# Altium footprint library WL-SITW.PcbLib: 4 footprints
Each footprint in its own frame and in the unit in brackets; x right, y up, seen from the top. Pads: shape width x height; smd on the part's side, far side on the other; paste and mask are expansions set on the pad; w line width, h text height; cw(c..) or ccw(c..) is an arc to the next point about the centre after c.
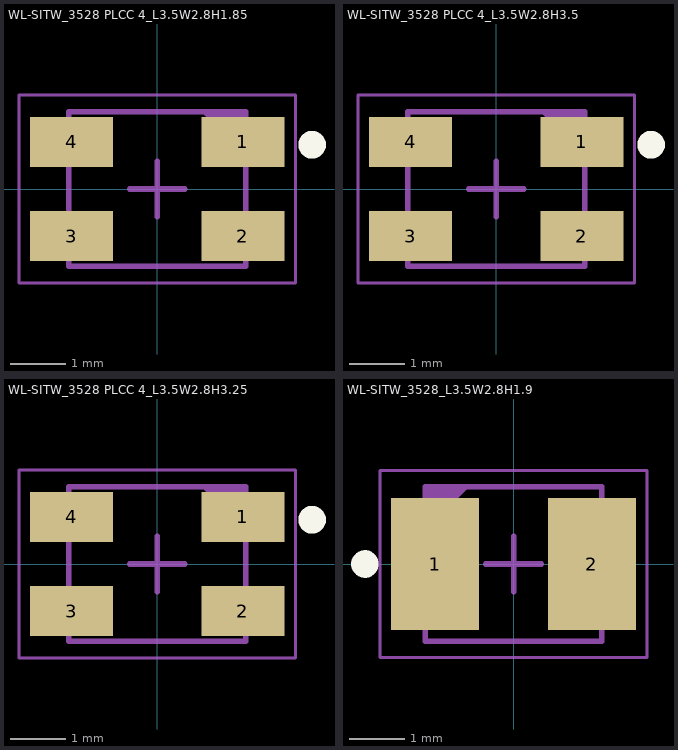
[diagram p0: the footprints below, top view; thin cyan lines are the x and y axes]

## WL-SITW_3528 PLCC 4_L3.5W2.8H1.85 [mm] "SMD Infrared TOP LED Waterclear, body 3.5x2.8mm"
height 2.05
pads (4):
  rect 1.5x0.9 smd: 1(1.55,0.85) 2(1.55,-0.85) 3(-1.55,-0.85) 4(-1.55,0.85)
Top Overlay:
  circle w0.25: c2.8,0.8 r0.125
Top Assembly:
  region: 1.6,1.4 0.8,1.4 1.6,0.6
  lines w0.1: -1.6,-1.4 -1.6,1.4 1.6,1.4 1.6,-1.4 -1.6,-1.4
Top Designator:
  text ".Designator" at -3.647,-0.357 h1
Top 3D Body:
  region: 1.6,1.4 0.8,1.4 1.6,0.6
  lines w0.1: -1.6,-1.4 1.6,-1.4 1.6,1.4 -1.6,1.4 -1.6,-1.4
Top Courtyard:
  lines w0.05: -2.5,-1.7 2.5,-1.7 2.5,1.7 -2.5,1.7 -2.5,-1.7
Top Component Center:
  lines w0.1: -0.5,0 0.5,0 ; 0,-0.5 0,0.5
3D body "15414194AA211.stp": height 1.85, standoff 0, extent -1.75,-1.4 1.75,1.4

## WL-SITW_3528 PLCC 4_L3.5W2.8H3.5 [mm] "SMD Infrared TOP LED Waterclear, body 3.5x2.8mm"
height 3.7
pads (4):
  rect 1.5x0.9 smd: 1(1.55,0.85) 2(1.55,-0.85) 3(-1.55,-0.85) 4(-1.55,0.85)
Top Overlay:
  circle w0.25: c2.8,0.8 r0.125
Top Assembly:
  region: 1.6,1.4 0.8,1.4 1.6,0.6
  lines w0.1: -1.6,-1.4 1.6,-1.4 1.6,1.4 -1.6,1.4 -1.6,-1.4
Top Designator:
  text ".Designator" at -3.647,-0.357 h1
Top 3D Body:
  region: 1.6,1.4 0.8,1.4 1.6,0.6
  lines w0.1: -1.6,-1.4 -1.6,1.4 1.6,1.4 1.6,-1.4 -1.6,-1.4
Top Courtyard:
  lines w0.05: -2.5,-1.7 -2.5,1.7 2.5,1.7 2.5,-1.7 -2.5,-1.7
Top Component Center:
  lines w0.1: -0.5,0 0.5,0 ; 0,-0.5 0,0.5
3D body "15414194A3011.stp": height 3.5, standoff 0, extent -1.75,-1.4 1.75,1.4

## WL-SITW_3528 PLCC 4_L3.5W2.8H3.25 [mm] "SMD Infrared TOP LED Waterclear, body 3.5x2.8mm"
height 3.45
pads (4):
  rect 1.5x0.9 smd: 1(1.55,0.85) 2(1.55,-0.85) 3(-1.55,-0.85) 4(-1.55,0.85)
Top Overlay:
  circle w0.25: c2.8,0.8 r0.125
Top Assembly:
  region: 1.6,1.4 0.8,1.4 1.6,0.6
  lines w0.1: -1.6,-1.4 -1.6,1.4 1.6,1.4 1.6,-1.4 -1.6,-1.4
Top Designator:
  text ".Designator" at -3.647,-0.357 h1
Top 3D Body:
  region: 1.6,1.4 0.8,1.4 1.6,0.6
  lines w0.1: -1.6,-1.4 1.6,-1.4 1.6,1.4 -1.6,1.4 -1.6,-1.4
Top Courtyard:
  lines w0.05: -2.5,-1.7 2.5,-1.7 2.5,1.7 -2.5,1.7 -2.5,-1.7
Top Component Center:
  lines w0.1: -0.5,0 0.5,0 ; 0,-0.5 0,0.5
3D body "15414194A6011.stp": height 3.25, standoff 0, extent -1.75,-1.4 1.75,1.4

## WL-SITW_3528_L3.5W2.8H1.9 [mm] "SMD Infrared TOP LED  Waterclear, body 3.5x2.8mm"
height 2.1
pads (2):
  rect 1.6x2.4 smd: 1(-1.425,0) 2(1.425,0)
Top Overlay:
  circle w0.25: c-2.7,0 r0.125
Top Assembly:
  region: -1.6,1.4 -0.8,1.4 -1.6,0.6
  lines w0.1: -1.6,-1.4 -1.6,1.4 1.6,1.4 1.6,-1.4 -1.6,-1.4
Top Designator:
  text ".Designator" at -3.647,-0.357 h1
Top 3D Body:
  region: -1.6,1.4 -0.8,1.4 -1.6,0.6
  lines w0.1: -1.6,-1.4 1.6,-1.4 1.6,1.4 -1.6,1.4 -1.6,-1.4
Top Courtyard:
  lines w0.05: -2.425,-1.7 2.425,-1.7 2.425,1.7 -2.425,1.7 -2.425,-1.7
Top Component Center:
  lines w0.1: -0.5,0 0.5,0 ; 0,-0.5 0,0.5
3D body "15141xxxx.stp": height 1.9, standoff 0, extent -1.75,-1.4 1.75,1.4